# Altium schematic symbol library ZXBM5210-S-13.SchLib: 1 symbol
Pins are listed as number, name and electrical type; pins without a type are passive.

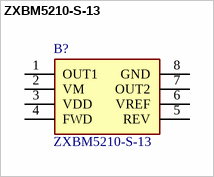
[diagram p0: symbol ZXBM5210-S-13]

## ZXBM5210-S-13
designator B?
DiodesZetex ZXBM5210-S-13, DC Motor Driver; Manufacturer_Name: Diodes Inc.; Geometry.Height: 1.75mm; Mouser Part Number: 621-ZXBM5210-S-13; Mouser Price/Stock: https://www.mouser.co.uk/ProductDetail/Diodes-Incorporated/ZXBM5210-S-13?qs=98WN%2FnWUQiQlr91Z1%2FDTeg%3D%3D; Manufacturer_Part_Number: ZXBM5210-S-13; Datasheet Link: https://rs.componentsearchengine.com/Datasheets/1/ZXBM5210-S-13.pdf
footprint SOIC127P600X175-8N
pins: 1 OUT1, 2 VM (power), 3 VDD (power), 4 FWD, 5 REV, 6 VREF, 7 OUT2, 8 GND